# Altium schematic symbol library MySchlib.SchLib: 16 symbols
Pins are listed as number, name and electrical type; pins without a type are passive.

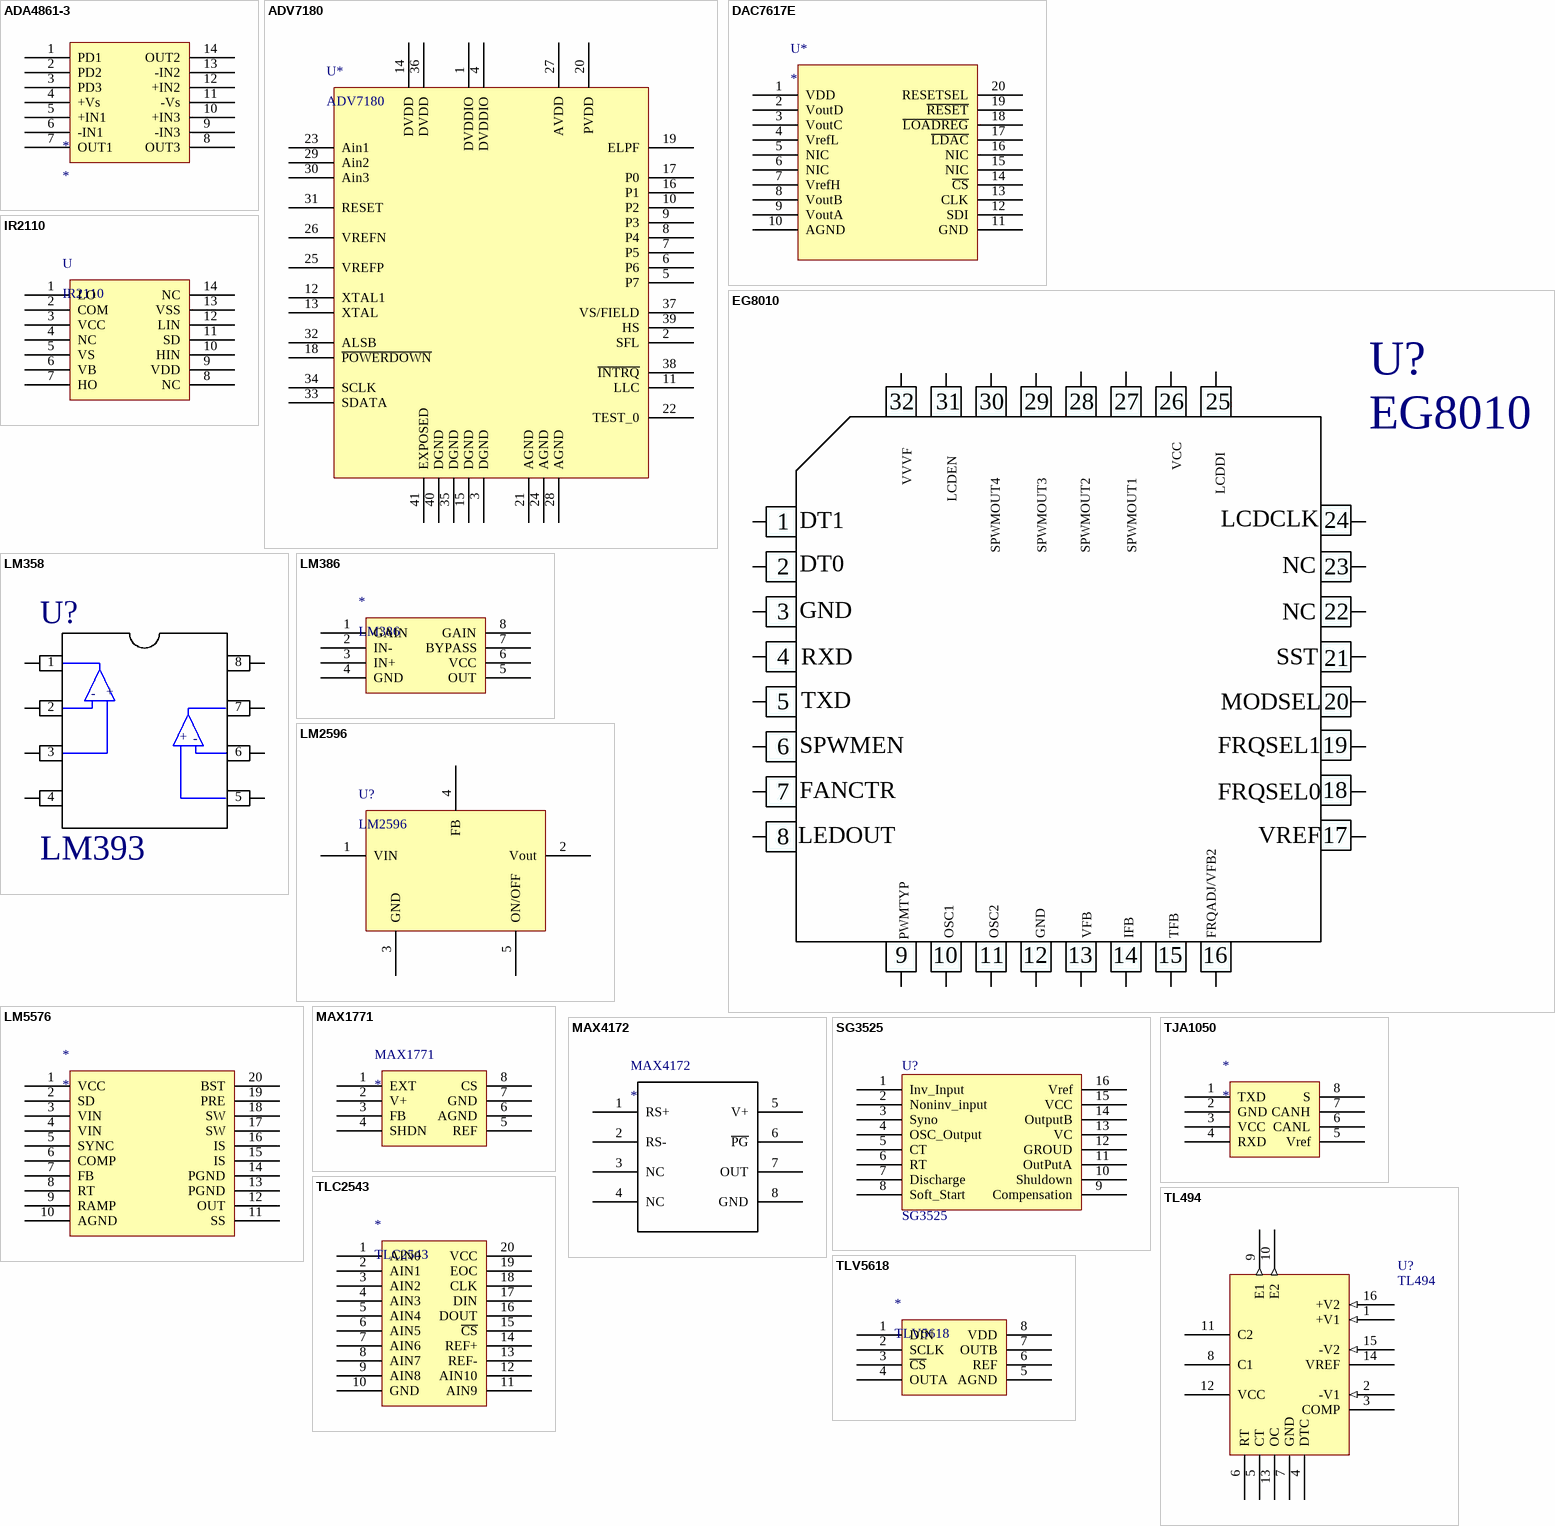
[diagram p0: symbols ADA4861-3 to TLV5618]

## ADA4861-3
designator *
pins: 1 PD1, 2 PD2, 3 PD3, 4 +Vs, 5 +IN1, 6 -IN1, 7 OUT1, 8 OUT3, 9 -IN3, 10 +IN3, 11 -Vs, 12 +IN2, 13 -IN2, 14 OUT2

## ADV7180
designator U*
pins: 1 DVDDIO, 2 SFL, 3 DGND, 4 DVDDIO, 5 P7, 6 P6, 7 P5, 8 P4, 9 P3, 10 P2, 11 LLC, 12 XTAL1, 13 XTAL, 14 DVDD, 15 DGND, 16 P1, 17 P0, 18 ~{POWERDOWN}, 19 ELPF, 20 PVDD, 21 AGND, 22 TEST_0, 23 Ain1, 24 AGND, 25 VREFP, 26 VREFN, 27 AVDD, 28 AGND, 29 Ain2, 30 Ain3, 31 RESET, 32 ALSB, 33 SDATA, 34 SCLK, 35 DGND, 36 DVDD, 37 VS/FIELD, 38 ~{INTRQ}, 39 HS, 40 DGND, 41 EXPOSED

## DAC7617E
designator U*
pins: 1 VDD, 2 VoutD, 3 VoutC, 4 VrefL, 5 NIC, 6 NIC, 7 VrefH, 8 VoutB, 9 VoutA, 10 AGND, 11 GND, 12 SDI, 13 CLK, 14 ~{CS}, 15 NIC, 16 NIC, 17 ~{LDAC}, 18 ~{LOADREG}, 19 ~{RESET}, 20 RESETSEL

## EG8010
designator U?
footprint LQFP-32
pins: 1 P16, 2 p17, 3 rst, 4 p30, 5 p31, 6 p32, 7 p33, 8 p34, 9 p35, 10 x2, 11 x1, 12 vss, 13 p20, 14 p21, 15 p22, 16 p23, 17 p24, 18 p25, 19 p26, 20 p27, 21 oc, 22 psen/vpp, 23 ale, 24 ea, 25 nc, 26 vcc, 27 p10, 28 p11, 29 p12, 30 p13, 31 p14, 32 p15
2 alternate drawings of the same symbol
text: VCC; VVVF; LCDDI; LCDEN; DT1; LCDCLK; SPWMOUT4; SPWMOUT3; SPWMOUT2; SPWMOUT1; DT0; NC; GND; RXD; SST; TXD; MODSEL; SPWMEN; FRQSEL1; FANCTR; FRQSEL0; LEDOUT; VREF; PWMTYP; OSC1; OSC2; VFB; IFB; TFB; FRQADJ/VFB2

## IR2110
designator U
pins: 1 LO, 2 COM, 3 VCC, 4 NC, 5 VS, 6 VB, 7 HO, 8 NC, 9 VDD, 10 HIN, 11 SD, 12 LIN, 13 VSS, 14 NC

## LM358
designator U?, comment LM393
footprint SO-8
pins: 1, 2, 3, 4, 5, 6, 7, 8
2 alternate drawings of the same symbol
text: -; +

## LM386
designator *
pins: 1 GAIN, 2 IN-, 3 IN+, 4 GND, 5 OUT, 6 VCC, 7 BYPASS, 8 GAIN

## LM2596
designator U?
pins: 1 VIN, 2 Vout, 3 GND, 4 FB, 5 ON/OFF

## LM5576
designator *
pins: 1 VCC, 2 SD, 3 VIN, 4 VIN, 5 SYNC, 6 COMP, 7 FB, 8 RT, 9 RAMP, 10 AGND, 11 SS, 12 OUT, 13 PGND, 14 PGND, 15 IS, 16 IS, 17 SW, 18 SW, 19 PRE, 20 BST

## MAX1771
designator MAX1771
footprint SO8NB
pins: 1 EXT, 2 V+, 3 FB, 4 SHDN, 5 REF, 6 AGND, 7 GND, 8 CS

## MAX4172
designator MAX4172
pins: 1 RS+, 2 RS-, 3 NC, 4 NC, 5 V+, 6 ~{PG}, 7 OUT, 8 GND

## SG3525
designator U?
footprint DIP16
pins: 1 Inv_Input, 2 Noninv_input, 3 Syno, 4 OSC_Output, 5 CT, 6 RT, 7 Discharge, 8 Soft_Start, 9 Compensation, 10 Shuldown, 11 OutPutA, 12 GROUD, 13 VC, 14 OutputB, 15 VCC, 16 Vref

## TJA1050
designator *
pins: 1 TXD, 2 GND, 3 VCC, 4 RXD, 5 Vref, 6 CANL, 7 CANH, 8 S

## TL494
designator U?
footprint DIP-16 (DIP; 16 Leads; Row Spacing 7.62 mm; Pitch 2.54 mm)
pins: 1 +V1 (in), 2 -V1 (in), 3 COMP, 4 DTC, 5 CT, 6 RT, 7 GND (power) hidden to GND, 8 C1, 9 E1 (out), 10 E2 (out), 11 C2, 12 VCC (power) hidden to VCC, 13 OC, 14 VREF, 15 -V2 (in), 16 +V2 (in)

## TLC2543
designator *
footprint Model Name (Footprint not found)
pins: 1 AIN0, 2 AIN1, 3 AIN2, 4 AIN3, 5 AIN4, 6 AIN5, 7 AIN6, 8 AIN7, 9 AIN8, 10 GND, 11 AIN9, 12 AIN10, 13 REF-, 14 REF+, 15 ~{CS}, 16 DOUT, 17 DIN, 18 CLK, 19 EOC, 20 VCC

## TLV5618
designator *
footprint DIP8
pins: 1 DIN, 2 SCLK, 3 ~{CS}, 4 OUTA, 5 AGND, 6 REF, 7 OUTB, 8 VDD